# EAGLE library part 691309510003 (library Wuerth_Elektronik_eiCan_Terminal_Blocks_v2.0)
WR-TBL Serie 3095 - 5.08mm Reversed Gender Horizontal PCB Header , 3 pins
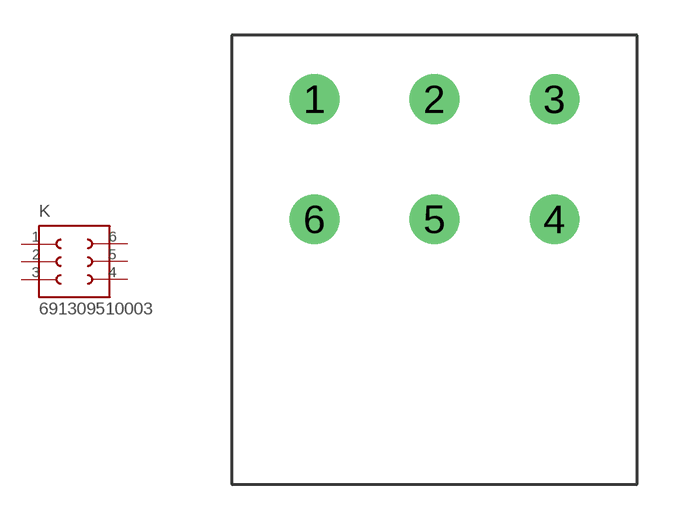
[diagram p176: symbol with the pads of 691309510003; footprint 691309510003]

Designator prefix K

## 691309510003  [691309510003]
1  1  pas
2  2  pas
3  3  pas
4  4  pas
5  5  pas
6  6  pas

## Footprint 691309510003 (pad centres in mm)
WR-TBL Serie 3075 - 5.08mm Reversed Gender Vertiacal PCB Header , 3 pins
drill 1.4 round: 1 -5.08,5.08; 2 0,5.08; 3 5.08,5.08; 4 5.08,0; 5 0,0; 6 -5.08,0